# EAGLE library part JACK_PHONE (library wheat)
JACK, PHONE, 1/4" STEREO W/SW REAN
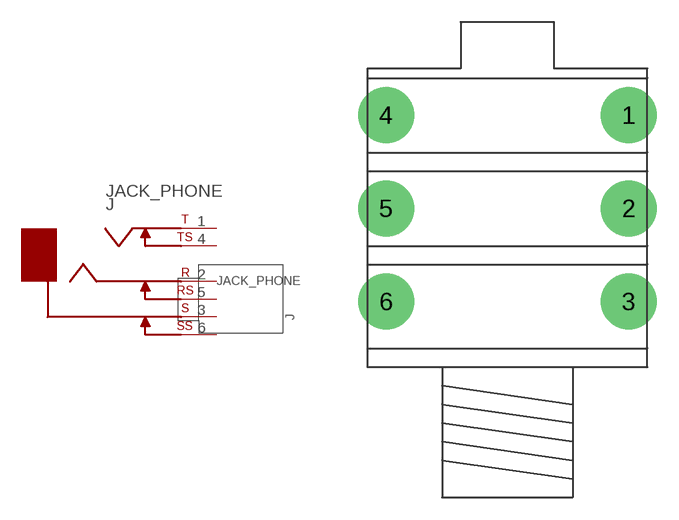
[diagram p3: symbol with the pads of JACK_PHONE; footprint JACK_PHONE]

Designator prefix J

## JACK_PHONE  [JACK_PHONE]
1  1  pas
2  2  pas
3  3  pas
4  4  pas
5  5  pas
6  6  pas

## Footprint JACK_PHONE (pad centres in mm)
JACK, 1/4" HEADPHONE REAN
drill 1.422 pad 3.81: 1 8.255,17.145; 2 8.255,10.795; 3 8.255,4.445; 4 -8.255,17.145; 5 -8.255,10.795; 6 -8.255,4.445